# Altium schematic symbol library Motion.SchLib: 2 symbols
Pins are listed as number, name and electrical type; pins without a type are passive.

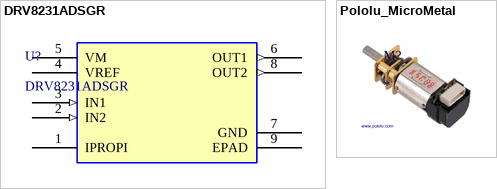
[diagram p0: symbols DRV8231ADSGR to Pololu_MicroMetal]

## DRV8231ADSGR
designator U?
35-V, 3.7-A H-bridge motor driver with integrated current regulation & current-sense feedback 8-WSON -40 to 150; Manufacturer_Name: Texas Instruments; Copyright: Copyright (C) 2025 Ultra Librarian. All rights reserved.; Manufacturer_Part_Number: DRV8231ADSGR; RefDes: RefDes; Type: Type
footprint WSON8_DSG_TEX
pins: 1 IPROPI (power), 2 IN2 (in), 3 IN1 (in), 4 VREF (power), 5 VM (power), 6 OUT1 (out), 7 GND (power), 8 OUT2 (out), 9 EPAD (power)

## Pololu_MicroMetal
designator M?